# Altium footprint library PCB - AUDIO - CUI CMS-15113-078SP.PcbLib: 1 footprints
Each footprint in its own frame and in the unit in brackets; x right, y up, seen from the top. Pads: shape width x height; smd on the part's side, far side on the other; paste and mask are expansions set on the pad; w line width, h text height; cw(c..) or ccw(c..) is an arc to the next point about the centre after c.
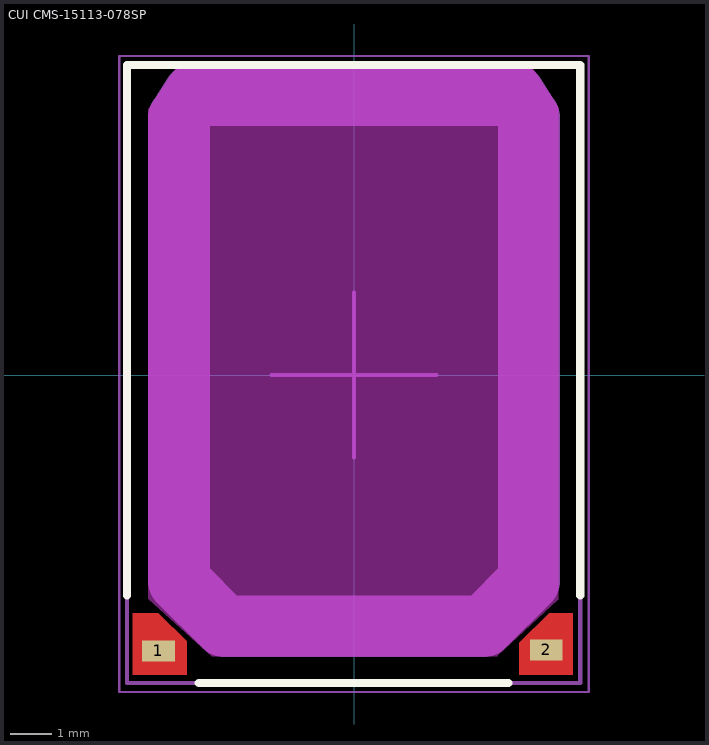
[diagram p0: the footprint, top view; thin cyan lines are the x and y axes]

## CUI CMS-15113-078SP [mm] "15.00 x 11.00 mm Body,   8 Ohms General Purpose Speaker 700mW 100Hz ~ 20kHz Top Rectangular"
height 3.2
pads (2):
  rect 0.8x0.5 smd: 1(-4.75,-6.7) 2(4.667,-6.675)
Top Layer:
  region: -5.366,-7.278 -5.366,-5.778 -4.757,-5.778 -4.066,-6.469 -4.066,-7.278
  region: 4.009,-7.278 5.309,-7.278 5.309,-5.778 4.735,-5.778 4.009,-6.503
Top Overlay:
  lines w0.2: -5.508,-5.35 -5.508,7.525 5.492,7.525 5.492,-5.35 ; -3.767,-7.475 -0.008,-7.475 3.75,-7.475
Keep-Out Layer:
  board cut-out: -4.991,-5.428 -4.991,6.455 -4.991,6.457 -4.99,6.461 -4.989,6.464 -4.988,6.468 -4.987,6.469 -4.271,7.536 -4.269,7.539 -4.264,7.543 -4.259,7.546 -4.253,7.548 -4.25,7.548 4.26,7.548 4.263,7.548 4.27,7.546 4.275,7.543 4.28,7.539 4.282,7.536 4.956,6.5 4.957,6.498 4.958,6.495 4.959,6.491 4.96,6.488 4.96,6.486 4.96,-5.441 4.96,-5.444 4.959,-5.449 4.957,-5.454 4.954,-5.458 4.952,-5.46 3.477,-6.821 3.475,-6.823 3.471,-6.826 3.467,-6.827 3.462,-6.828 3.459,-6.828 -3.441,-6.828 -3.443,-6.828 -3.447,-6.827 -3.452,-6.826 -3.456,-6.823 -3.458,-6.822 -4.983,-5.447 -4.985,-5.445 -4.988,-5.441 -4.99,-5.436 -4.991,-5.43
Mechanical 13:
  lines w0.1: -5.508,-7.475 5.492,-7.475 5.492,7.525 -5.508,7.525 -5.508,-7.475
Mechanical 15:
  lines w0.05: -5.7,-7.7 5.7,-7.7 5.7,7.75 -5.7,7.75 -5.7,-7.7
  lines w0.1: -2,0 0,0 ; 0,-2 0,0 ; 0,2 0,0 ; 0,0 2,0 0,0
Route Tool Path:
  lines w1.5: -4.25,-5 -4.25,6.25 -3.9,6.8 3.9,6.8 4.25,6.25 4.25,-5 3.15,-6.1 -3.15,-6.1 -4.25,-5
3D body "CUI - CMS-15113-078SP v2.step": height 2.52, standoff -0.68, extent -5.508,-7.475 5.492,7.525